# Altium footprint library Sense2goL_V1.2.PcbLib: 24 footprints (part 1 of 2)
Each footprint in its own frame and in the unit in brackets; x right, y up, seen from the top. Pads: shape width x height; smd on the part's side, far side on the other; paste and mask are expansions set on the pad; w line width, h text height; cw(c..) or ccw(c..) is an arc to the next point about the centre after c.
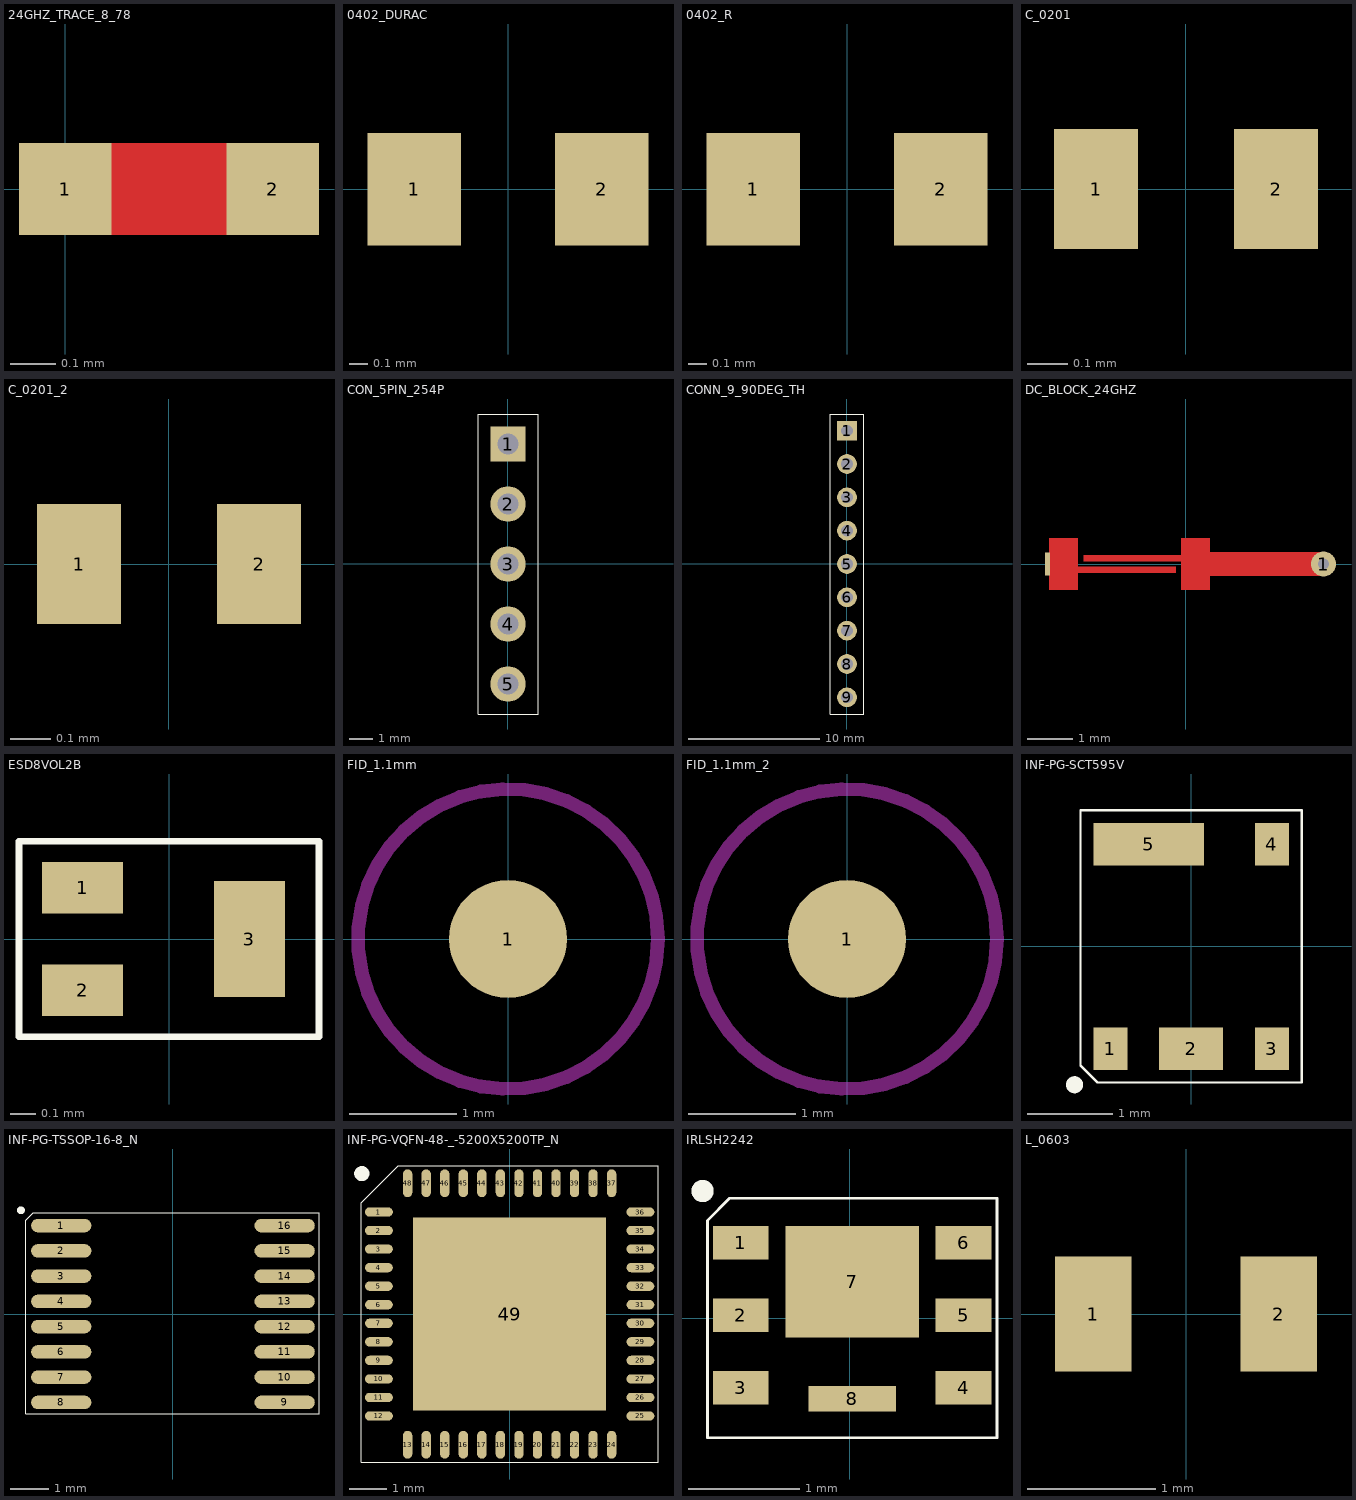
[diagram p0: the footprints below, top view; thin cyan lines are the x and y axes]

## 24GHZ_TRACE_8_78 [mil]
height 47.24
pads (2):
  rect 8x8 smd paste-40 mask+0: 1(0,0) 2(18,0)
Top Layer:
  rectangle: -3.87,-4 22,4

## 0402_DURAC [mm] "0402_DURAC"
pads (2):
  rect 0.5x0.6 smd: 1(-0.5,0) 2(0.5,0)
3D body "CAP0402.stp": height 0.2, standoff 0, extent -0.5,-0.3 0.5,0.3

## 0402_R [mm] "resistor 0402 reflow soldering"
pads (2):
  rect 0.5x0.6 smd: 1(-0.5,0) 2(0.5,0)
3D body "RES0402.stp": height 0.3, standoff 0, extent -0.5,-0.25 0.5,0.25

## C_0201 [mm] "C_0201"
pads (2):
  rect 0.21x0.3 smd mask+0.051: 1(-0.225,0) 2(0.225,0)
3D body "User Library-cap_0201.step": height 0.3, standoff 0, extent -0.3,-0.15 0.3,0.15

## C_0201_2 [mm]
pads (2):
  rect 0.21x0.3 smd mask+0.051: 1(-0.225,0) 2(0.225,0)
3D body "User Library-cap_0201.step": height 0.3, standoff 0, extent -0.3,-0.15 0.3,0.15

## CON_5PIN_254P [mm] "CON_5PIN_254P"
pads (5):
  rect 1.5x1.5 hole 0.9: 1(0,5.08)
  round 1.5 hole 0.9: 2(0,2.54) 3(0,0) 4(0,-2.54) 5(0,-5.08)
Top Overlay:
  lines w0.025: -1.27,-6.35 1.27,-6.35 1.27,6.35 -1.27,6.35 -1.27,-6.35
3D body "User Library-Header_Male_5Pin.STEP": height 8.54, standoff -3, extent -1.245,-6.35 1.245,6.35

## CONN_9_90DEG_TH [mm] "CONN_9_90DEG_TH"
pads (9):
  rect 1.5x1.5 hole 0.9: 1(0,10.16)
  round 1.5 hole 0.9: 2(0,7.62) 3(0,5.08) 4(0,2.54) 5(0,0) 6(0,-2.54) 7(0,-5.08) 8(0,-7.62) 9(0,-10.16)
Top Overlay:
  lines w0.025: -1.27,-11.43 -1.27,11.43 1.27,11.43 1.27,-11.43 -1.27,-11.43
3D body "User Library-Header_Male_9Pin.STEP": height 8.54, standoff -3, extent -1.245,-11.43 1.245,11.43

## DC_BLOCK_24GHZ [mm] "DC_BLOCK_24GHZ"
pads (2):
  round 0.55 hole 0.25: 1(3.045,0)
  rect 0.102x0.508 smd paste+0 mask+0: 2(-3.045,0)
Top Layer:
  region: -2.25,0.064 -0.093,0.064 -0.093,-0.57 0.535,-0.57 0.535,-0.255 3.045,-0.255 3.045,0.254 0.535,0.254 0.535,0.57 -0.093,0.57 -0.093,0.191 -2.25,0.191
  region: -3.005,-0.57 -2.377,-0.57 -2.377,-0.191 -0.22,-0.191 -0.22,-0.064 -2.377,-0.064 -2.377,0.57 -3.005,0.57

## ESD8VOL2B [mm] "ESD8VOL2B"
pads (3):
  rect 0.315x0.2 smd mask+0.051: 1(-0.336,0.2) 2(-0.336,-0.2)
  rect 0.275x0.45 smd mask+0.051: 3(0.313,0)
Top Overlay:
  lines w0.025: -0.584,-0.381 -0.584,0.381 0.584,0.381 0.584,-0.381 -0.584,-0.381
3D body: height 0.5, standoff 0, extent -0.199,-0.299 0.499,0.299
3D body: height 0.5, standoff 0, extent -0.499,-0.299 -0.201,0.299

## FID_1.1mm [mm]
height 1.2
pads (1):
  round 1.1 smd paste-2.54 mask+1: 1(0,0)
Top Layer keep-out:
  circle w0.127: c0,0 r1.4

## FID_1.1mm_2 [mm]
pads (1):
  round 1.1 smd paste-2.54 mask+1: 1(0,0)
Top Layer keep-out:
  circle w0.127: c0,0 r1.4

## INF-PG-SCT595V [mm] "INF-PG-SCT595V"
pads (5):
  rect 0.4x0.5 smd: 1(-0.95,-1.2) 3(0.95,-1.2) 4(0.95,1.2)
  rect 0.75x0.5 smd: 2(0,-1.2)
  rect 1.3x0.5 smd: 5(-0.5,1.2)
Top Overlay:
  circle w0.1: c-1.371,-1.626 r0.05
  lines w0.025: -1.3,-1.4 -1.3,1.6 1.3,1.6 1.3,-1.6 -1.1,-1.6 -1.3,-1.4
3D body: height 0.64, standoff 0, extent -1.143,-0.762 1.143,0.762

## INF-PG-TSSOP-16-8_N [mm] "INF-PG-TSSOP-16-8_N"
pads (16):
  oval 1.55x0.35 smd mask+0.051: 1(-2.875,2.275) 2(-2.875,1.625) 3(-2.875,0.975) 4(-2.875,0.325) 5(-2.875,-0.325) 6(-2.875,-0.975) 7(-2.875,-1.625) 8(-2.875,-2.275) 9(2.875,-2.275) 10(2.875,-1.625) 11(2.875,-0.975) 12(2.875,-0.325) 13(2.875,0.325) 14(2.875,0.975) 15(2.875,1.625) 16(2.875,2.275)
Top Overlay:
  circle w0.1: c-3.911,2.667 r0.05
  lines w0.025: -3.785,-2.565 3.759,-2.565 3.759,2.6 -3.6,2.6 -3.785,2.415 -3.785,-2.565
3D body: height 0.64, standoff 0, extent -3.048,-2.286 3.048,2.413

## INF-PG-VQFN-48-_-5200X5200TP_N [mm] "INF-PG-VQFN-48-_-5200X5200TP_N"
pads (49):
  oval 0.75x0.25 smd mask+0.051: 1(-3.525,2.75) 2(-3.525,2.25) 3(-3.525,1.75) 4(-3.525,1.25) 5(-3.525,0.75) 6(-3.525,0.25) 7(-3.525,-0.25) 8(-3.525,-0.75) 9(-3.525,-1.25) 10(-3.525,-1.75) 11(-3.525,-2.25) 12(-3.525,-2.75) 25(3.525,-2.75) 26(3.525,-2.25) 27(3.525,-1.75) 28(3.525,-1.25) 29(3.525,-0.75) 30(3.525,-0.25) 31(3.525,0.25) 32(3.525,0.75) 33(3.525,1.25) 34(3.525,1.75) 35(3.525,2.25) 36(3.525,2.75)
  oval 0.25x0.75 smd mask+0.051: 13(-2.75,-3.525) 14(-2.25,-3.525) 15(-1.75,-3.525) 16(-1.25,-3.525) 17(-0.75,-3.525) 18(-0.25,-3.525) 19(0.25,-3.525) 20(0.75,-3.525) 21(1.25,-3.525) 22(1.75,-3.525) 23(2.25,-3.525) 24(2.75,-3.525) 37(2.75,3.525) 38(2.25,3.525) 39(1.75,3.525) 40(1.25,3.525) 41(0.75,3.525) 42(0.25,3.525) 43(-0.25,3.525) 44(-0.75,3.525) 45(-1.25,3.525) 46(-1.75,3.525) 47(-2.25,3.525) 48(-2.75,3.525)
  rect 5.2x5.2 smd mask+0.051: 49(0,0)
Top Overlay:
  circle w0.203: c-3.987,3.785 r0.102
  lines w0.025: -4,-4 -4,3 -3,4 4,4 4,-4 -4,-4
3D body: height 0.64, standoff 0, extent -3.556,-3.556 3.556,3.556

## IRLSH2242 [mm] "IRLSH2242"
pads (8):
  rect 0.5x0.3 smd mask+0.051: 1(-0.977,0.678) 2(-0.977,0.028) 3(-0.977,-0.622) 4(1.023,-0.622) 5(1.023,0.028) 6(1.023,0.678)
  rect 1.2x1 smd mask+0.051: 7(0.023,0.328)
  rect 0.785x0.23 smd mask+0.051: 8(0.023,-0.722)
Top Overlay:
  circle w0.1: c-1.32,1.143 r0.05
  lines w0.025: -1.277,-1.072 1.323,-1.072 1.323,1.078 -1.077,1.078 -1.277,0.878 -1.277,-1.072
3D body: height 0.8, standoff 0, extent -0.977,-0.972 1.023,1.003

## L_0603 [mm] "L_0603"
pads (2):
  rect 0.6x0.9 smd mask+0.051: 1(-0.725,0) 2(0.725,0)
3D body: height 0.85, standoff 0, extent 0.525,-0.475 0.875,0.475
3D body: height 0.85, standoff 0, extent -0.875,-0.475 -0.525,0.475
3D body: height 0.85, standoff 0, extent -0.525,-0.475 0.525,0.475